# EAGLE library part SN74LS86ANE4 (library SN74LS86ANE4)
Logic Gates Quad 2-input Exclusive-OR gates Source: Datasheet <https://www.arrow.com/en/products/sn74ls86ane4/texas-instruments>
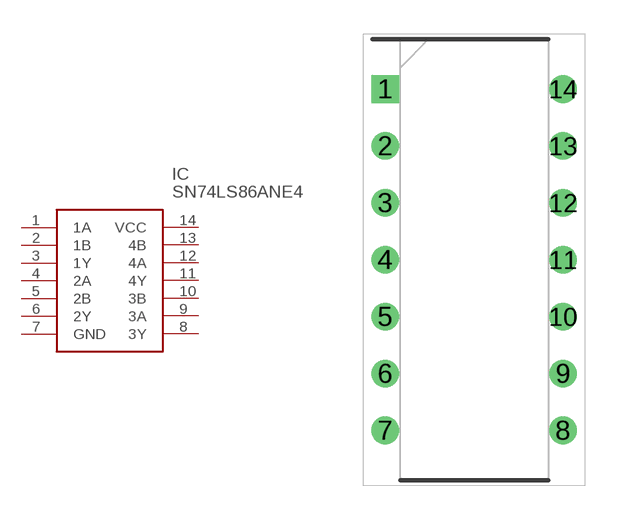
[diagram p0: symbol with the pads of DIP794W53P254L1930H508Q14N; footprint DIP794W53P254L1930H508Q14N]

Designator prefix IC

## SN74LS86ANE4 (Description: Logic Gates Quad 2-input Exclusive-OR gates; Height: 5.08mm; Manufacturer_Name: Texas Instruments; Manufacturer_Part_Number: SN74LS86ANE4; Mouser_Part_Number: 595-SN74LS86ANE4; Mouser_Price-Stock: https://www.mouser.co.uk/ProductDetail/Texas-Instruments/SN74LS86ANE4/?qs=UG%2F8xqv%2F6WdUoTaDIpbxrw%3D%3D)  [DIP794W53P254L1930H508Q14N]
1  1A
2  1B
3  1Y
4  2A
5  2B
6  2Y
7  GND
8  3Y
9  3A
10  3B
11  4Y
12  4A
13  4B
14  VCC

## Footprint DIP794W53P254L1930H508Q14N (pad centres in mm)
N (R-PDIP-T)
drill 0.73 pad 1.13 square: 1 -3.97,7.62
drill 0.73 pad 1.13: 2 -3.97,5.08; 3 -3.97,2.54; 4 -3.97,0; 5 -3.97,-2.54; 6 -3.97,-5.08; 7 -3.97,-7.62; 8 3.97,-7.62; 9 3.97,-5.08; 10 3.97,-2.54; 11 3.97,0; 12 3.97,2.54; 13 3.97,5.08; 14 3.97,7.62